# Altium schematic symbol library ICs-Serial.SchLib: 2 symbols
Pins are listed as number, name and electrical type; pins without a type are passive.

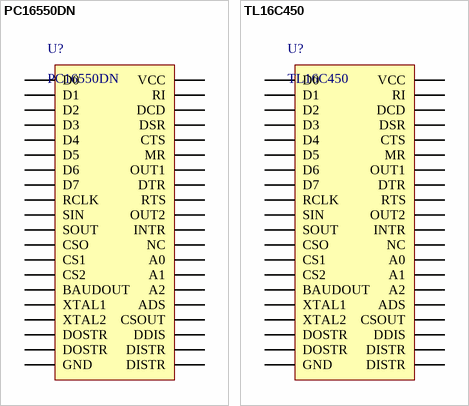
[diagram p0: symbols PC16550DN to TL16C450]

## PC16550DN
designator U?
Manufacturer: Texas Instruments; PartNumber: PC16550DN; Mounting Technology: Through Hole; PackageReference: PDIP-40
footprint PDIP-40
pins: 1 D0, 2 D1, 3 D2, 4 D3, 5 D4, 6 D5, 7 D6, 8 D7, 9 RCLK, 10 SIN, 11 SOUT, 12 CSO, 13 CS1, 14 CS2, 15 BAUDOUT, 16 XTAL1, 17 XTAL2, 18 DOSTR, 19 DOSTR, 20 GND, 21 DISTR, 22 DISTR, 23 DDIS, 24 CSOUT, 25 ADS, 26 A2, 27 A1, 28 A0, 29 NC, 30 INTR, 31 OUT2, 32 RTS, 33 DTR, 34 OUT1, 35 MR, 36 CTS, 37 DSR, 38 DCD, 39 RI, 40 VCC

## TL16C450
designator U?
Manufacturer: Texas Instruments; PartNumber: TL16C450; Mounting Technology: Through Hole; PackageReference: PDIP-40
footprint PDIP-40
pins: 1 D0, 2 D1, 3 D2, 4 D3, 5 D4, 6 D5, 7 D6, 8 D7, 9 RCLK, 10 SIN, 11 SOUT, 12 CSO, 13 CS1, 14 CS2, 15 BAUDOUT, 16 XTAL1, 17 XTAL2, 18 DOSTR, 19 DOSTR, 20 GND, 21 DISTR, 22 DISTR, 23 DDIS, 24 CSOUT, 25 ADS, 26 A2, 27 A1, 28 A0, 29 NC, 30 INTR, 31 OUT2, 32 RTS, 33 DTR, 34 OUT1, 35 MR, 36 CTS, 37 DSR, 38 DCD, 39 RI, 40 VCC